# Altium schematic symbol library MyPro.SchLib: 23 symbols
Pins are listed as number, name and electrical type; pins without a type are passive.

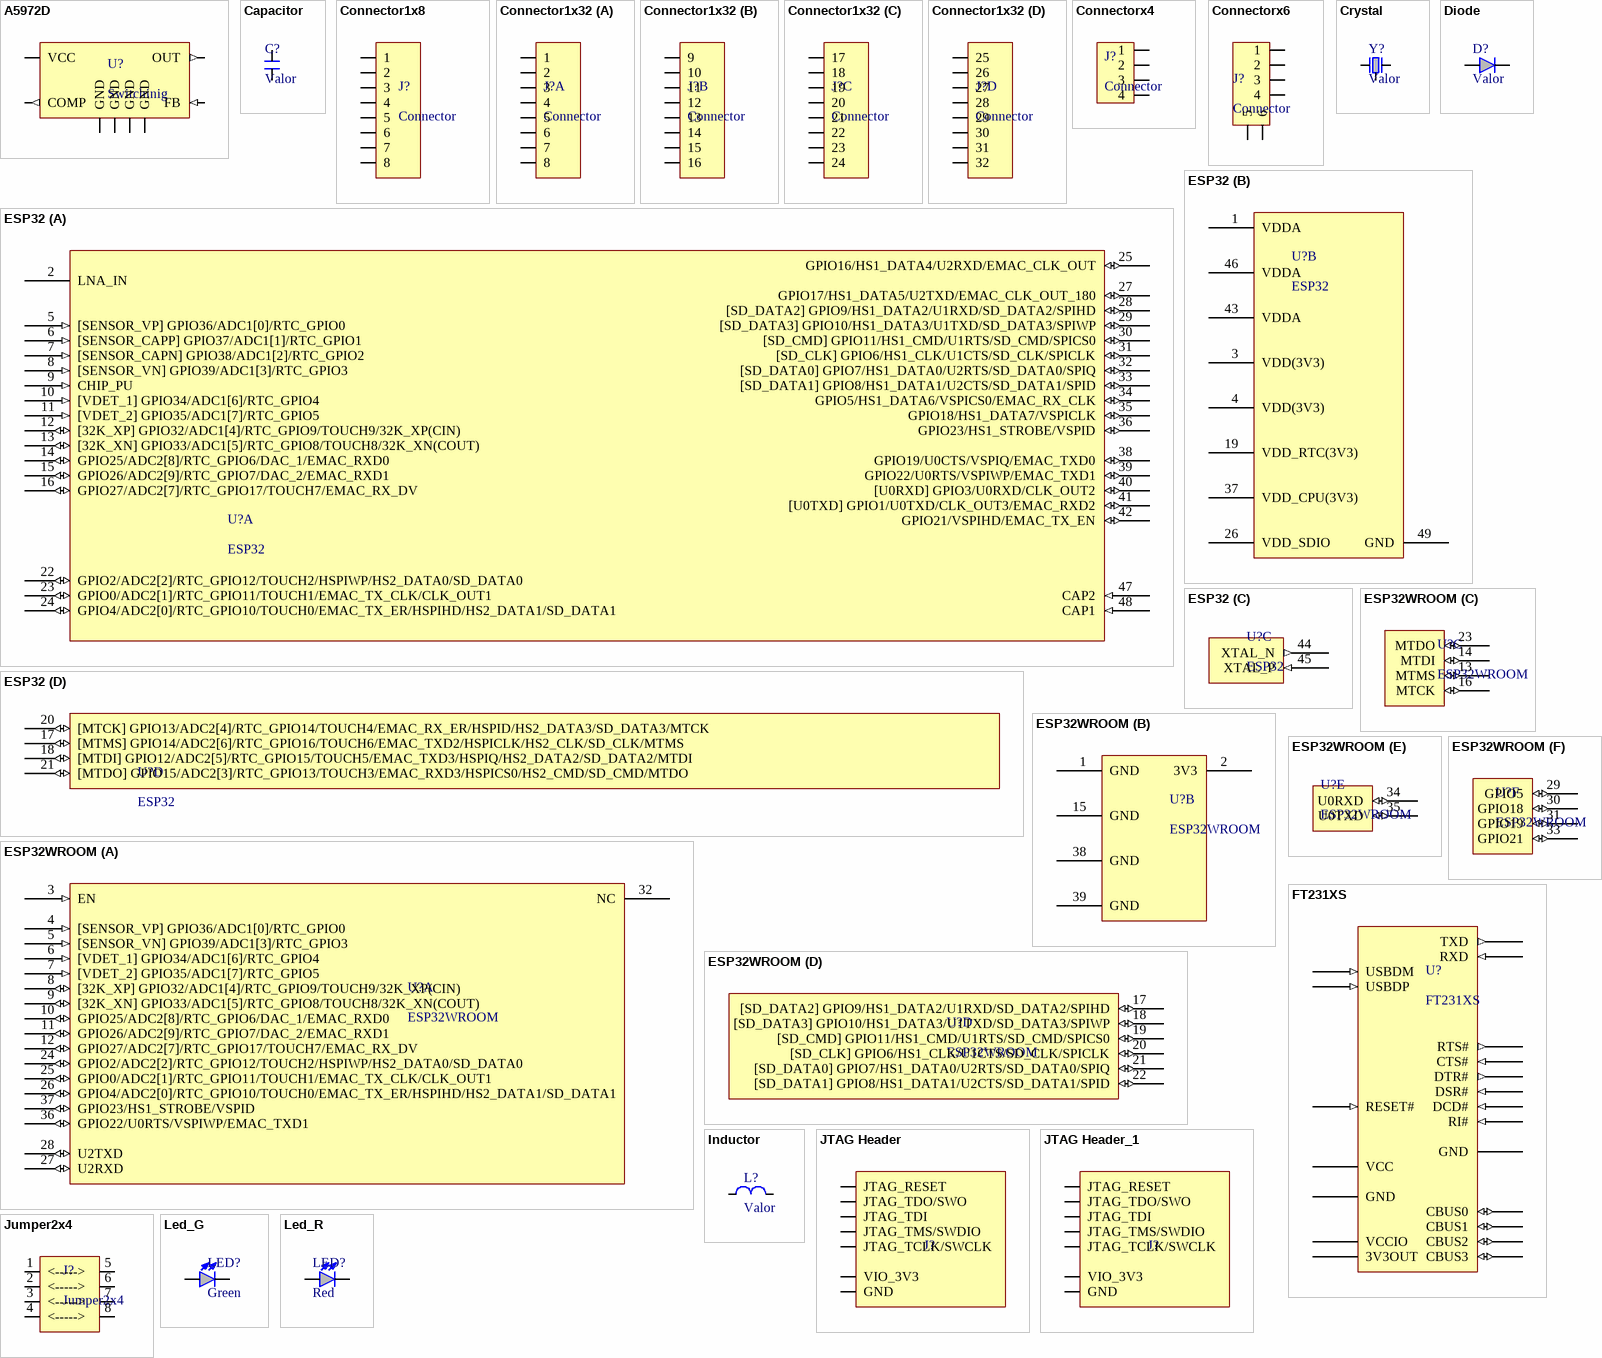
[diagram p0: symbols A5972D to Led_R]

## A5972D
designator U?, comment Switchinig
Fuente Switching 3.3v 1.5A
pins: 1 OUT (out), 2 GND, 3 GND, 4 COMP (out), 5 FB (in) "FeedBack input", 6 GND, 7 GND, 8 VCC

## Capacitor
designator C?, comment Valor
Capacitor
pins: 1 A1, 2 A2

## Connector1x8
designator J?, comment Connector
footprint HDRM_2.54mm_1X8
pins: 1, 2, 3, 4, 5, 6, 7, 8

## Connector1x32
designator J?, comment Connector
part A pins: 1, 2, 3, 4, 5, 6, 7, 8
part B pins: 9, 10, 11, 12, 13, 14, 15, 16
part C pins: 17, 18, 19, 20, 21, 22, 23, 24
part D pins: 25, 26, 27, 28, 29, 30, 31, 32

## Connectorx4
designator J?, comment Connector
footprint HDRM_0.1_1X4 (Header Male 100mils 4 pins)
pins: 1, 2, 3, 4

## Connectorx6
designator J?, comment Connector
pins: 1, 2, 3, 4, 5, 6

## Crystal
designator Y?, comment Valor
Crystal
pins: 1 P1, 2 P2, 3 P3

## Diode
designator D?, comment Valor
Generic Diode
pins: 1 A, 2 K

## ESP32
designator U?
part A pins: 2 LNA_IN, 5 [SENSOR_VP] GPIO36/ADC1[0]/RTC_GPIO0 (in), 6 [SENSOR_CAPP] GPIO37/ADC1[1]/RTC_GPIO1 (in), 7 [SENSOR_CAPN] GPIO38/ADC1[2]/RTC_GPIO2 (in), 8 [SENSOR_VN] GPIO39/ADC1[3]/RTC_GPIO3 (in), 9 CHIP_PU (in), 10 [VDET_1] GPIO34/ADC1[6]/RTC_GPIO4 (in), 11 [VDET_2] GPIO35/ADC1[7]/RTC_GPIO5 (in), 12 [32K_XP] GPIO32/ADC1[4]/RTC_GPIO9/TOUCH9/32K_XP(CIN) (io), 13 [32K_XN] GPIO33/ADC1[5]/RTC_GPIO8/TOUCH8/32K_XN(COUT) (io), 14 GPIO25/ADC2[8]/RTC_GPIO6/DAC_1/EMAC_RXD0 (io), 15 GPIO26/ADC2[9]/RTC_GPIO7/DAC_2/EMAC_RXD1 (io), 16 GPIO27/ADC2[7]/RTC_GPIO17/TOUCH7/EMAC_RX_DV (io), 22 GPIO2/ADC2[2]/RTC_GPIO12/TOUCH2/HSPIWP/HS2_DATA0/SD_DATA0 (io), 23 GPIO0/ADC2[1]/RTC_GPIO11/TOUCH1/EMAC_TX_CLK/CLK_OUT1 (io), 24 GPIO4/ADC2[0]/RTC_GPIO10/TOUCH0/EMAC_TX_ER/HSPIHD/HS2_DATA1/SD_DATA1 (io), 25 GPIO16/HS1_DATA4/U2RXD/EMAC_CLK_OUT (io), 27 GPIO17/HS1_DATA5/U2TXD/EMAC_CLK_OUT_180 (io), 28 [SD_DATA2] GPIO9/HS1_DATA2/U1RXD/SD_DATA2/SPIHD (io), 29 [SD_DATA3] GPIO10/HS1_DATA3/U1TXD/SD_DATA3/SPIWP (io), 30 [SD_CMD] GPIO11/HS1_CMD/U1RTS/SD_CMD/SPICS0 (io), 31 [SD_CLK] GPIO6/HS1_CLK/U1CTS/SD_CLK/SPICLK (io), 32 [SD_DATA0] GPIO7/HS1_DATA0/U2RTS/SD_DATA0/SPIQ (io), 33 [SD_DATA1] GPIO8/HS1_DATA1/U2CTS/SD_DATA1/SPID (io), 34 GPIO5/HS1_DATA6/VSPICS0/EMAC_RX_CLK (io), 35 GPIO18/HS1_DATA7/VSPICLK (io), 36 GPIO23/HS1_STROBE/VSPID (io), 38 GPIO19/U0CTS/VSPIQ/EMAC_TXD0 (io), 39 GPIO22/U0RTS/VSPIWP/EMAC_TXD1 (io), 40 [U0RXD] GPIO3/U0RXD/CLK_OUT2 (io), 41 [U0TXD] GPIO1/U0TXD/CLK_OUT3/EMAC_RXD2 (io), 42 GPIO21/VSPIHD/EMAC_TX_EN (io), 47 CAP2 (in), 48 CAP1 (in)
part B pins: 1 VDDA, 3 VDD(3V3), 4 VDD(3V3), 19 VDD_RTC(3V3), 26 VDD_SDIO, 37 VDD_CPU(3V3), 43 VDDA, 46 VDDA, 49 GND
part C pins: 44 XTAL_N (out), 45 XTAL_P (in)
part D pins: 17 [MTMS] GPIO14/ADC2[6]/RTC_GPIO16/TOUCH6/EMAC_TXD2/HSPICLK/HS2_CLK/SD_CLK/MTMS (io), 18 [MTDI] GPIO12/ADC2[5]/RTC_GPIO15/TOUCH5/EMAC_TXD3/HSPIQ/HS2_DATA2/SD_DATA2/MTDI (io), 20 [MTCK] GPIO13/ADC2[4]/RTC_GPIO14/TOUCH4/EMAC_RX_ER/HSPID/HS2_DATA3/SD_DATA3/MTCK (io), 21 [MTDO] GPIO15/ADC2[3]/RTC_GPIO13/TOUCH3/EMAC_RXD3/HSPICS0/HS2_CMD/SD_CMD/MTDO (io)

## ESP32WROOM
designator U?
footprint ESP32_WROOM - duplicate
part A pins: 3 EN (in), 4 [SENSOR_VP] GPIO36/ADC1[0]/RTC_GPIO0 (in), 5 [SENSOR_VN] GPIO39/ADC1[3]/RTC_GPIO3 (in), 6 [VDET_1] GPIO34/ADC1[6]/RTC_GPIO4 (in), 7 [VDET_2] GPIO35/ADC1[7]/RTC_GPIO5 (in), 8 [32K_XP] GPIO32/ADC1[4]/RTC_GPIO9/TOUCH9/32K_XP(CIN) (io), 9 [32K_XN] GPIO33/ADC1[5]/RTC_GPIO8/TOUCH8/32K_XN(COUT) (io), 10 GPIO25/ADC2[8]/RTC_GPIO6/DAC_1/EMAC_RXD0 (io), 11 GPIO26/ADC2[9]/RTC_GPIO7/DAC_2/EMAC_RXD1 (io), 12 GPIO27/ADC2[7]/RTC_GPIO17/TOUCH7/EMAC_RX_DV (io), 24 GPIO2/ADC2[2]/RTC_GPIO12/TOUCH2/HSPIWP/HS2_DATA0/SD_DATA0 (io), 25 GPIO0/ADC2[1]/RTC_GPIO11/TOUCH1/EMAC_TX_CLK/CLK_OUT1 (io), 26 GPIO4/ADC2[0]/RTC_GPIO10/TOUCH0/EMAC_TX_ER/HSPIHD/HS2_DATA1/SD_DATA1 (io), 27 U2RXD (io), 28 U2TXD (io), 32 NC, 36 GPIO22/U0RTS/VSPIWP/EMAC_TXD1 (io), 37 GPIO23/HS1_STROBE/VSPID (io)
part B pins: 1 GND, 2 3V3, 15 GND, 38 GND, 39 GND
part C pins: 13 MTMS (io), 14 MTDI (io), 16 MTCK (io), 23 MTDO (io)
part D pins: 17 [SD_DATA2] GPIO9/HS1_DATA2/U1RXD/SD_DATA2/SPIHD (io), 18 [SD_DATA3] GPIO10/HS1_DATA3/U1TXD/SD_DATA3/SPIWP (io), 19 [SD_CMD] GPIO11/HS1_CMD/U1RTS/SD_CMD/SPICS0 (io), 20 [SD_CLK] GPIO6/HS1_CLK/U1CTS/SD_CLK/SPICLK (io), 21 [SD_DATA0] GPIO7/HS1_DATA0/U2RTS/SD_DATA0/SPIQ (io), 22 [SD_DATA1] GPIO8/HS1_DATA1/U2CTS/SD_DATA1/SPID (io)
part E pins: 34 U0RXD (io), 35 U0TXD (io)
part F pins: 29 GPIO5 (io), 30 GPIO18 (io), 31 GPIO19 (io), 33 GPIO21 (io)

## FT231XS
designator U?
pins: 1 DTR# (out), 2 RTS# (out), 3 VCCIO (power), 4 RXD (in), 5 RI# (in), 6 GND (power), 7 DSR# (in), 8 DCD# (in), 9 CTS# (in), 10 CBUS2 (io), 11 USBDP (in), 12 USBDM (in), 13 3V3OUT (power), 14 RESET# (in), 15 VCC (power), 16 GND (power), 17 CBUS1 (io), 18 CBUS0 (io), 19 CBUS3 (io), 20 TXD (out)

## Inductor
designator L?, comment Valor
Inductor
pins: 1 P1, 2 P2

## JTAG Header
designator J?
pins: 1 VIO_3V3, 2 JTAG_TMS/SWDIO, 3 JTAG_TCLK/SWCLK, 4 JTAG_TDO/SWO, 5 JTAG_TDI, 6 JTAG_RESET, 8 GND

## JTAG Header_1
designator J?
footprint HDRM_2.54mm_1X8
pins: 1 VIO_3V3, 3 GND, 4 JTAG_RESET, 5 JTAG_TMS/SWDIO, 6 JTAG_TDI, 7 JTAG_TCLK/SWCLK, 8 JTAG_TDO/SWO

## Jumper2x4
designator J?
pins: 1 <----->, 2 <----->, 3 <----->, 4 <----->, 5, 6, 7, 8

## Led_G
designator LED?, comment Green
Green LED
pins: 1 A, 2 K

## Led_R
designator LED?, comment Red
Red LED
pins: 1 A, 2 K

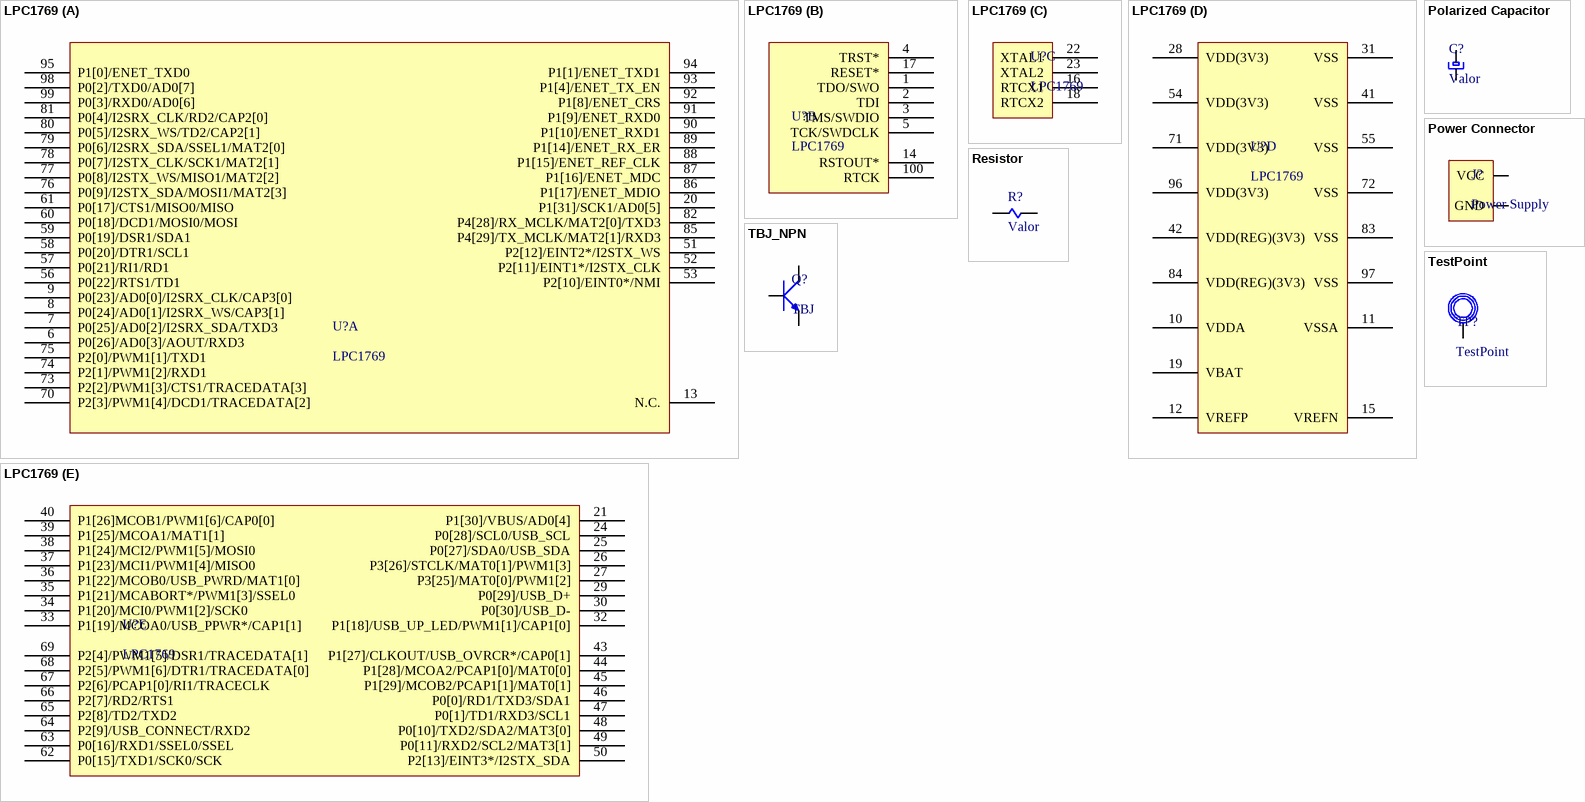
[diagram p1: symbols LPC1769 to TestPoint]

## LPC1769
designator U?
32 bit ARM Cortex M3
footprint LQFP100
part A pins: 6 P0[26]/AD0[3]/AOUT/RXD3, 7 P0[25]/AD0[2]/I2SRX_SDA/TXD3, 8 P0[24]/AD0[1]/I2SRX_WS/CAP3[1], 9 P0[23]/AD0[0]/I2SRX_CLK/CAP3[0], 13 N.C., 20 P1[31]/SCK1/AD0[5], 51 P2[12]/EINT2*/I2STX_WS, 52 P2[11]/EINT1*/I2STX_CLK, 53 P2[10]/EINT0*/NMI, 56 P0[22]/RTS1/TD1, 57 P0[21]/RI1/RD1, 58 P0[20]/DTR1/SCL1, 59 P0[19]/DSR1/SDA1, 60 P0[18]/DCD1/MOSI0/MOSI, 61 P0[17]/CTS1/MISO0/MISO, 70 P2[3]/PWM1[4]/DCD1/TRACEDATA[2], 73 P2[2]/PWM1[3]/CTS1/TRACEDATA[3], 74 P2[1]/PWM1[2]/RXD1, 75 P2[0]/PWM1[1]/TXD1, 76 P0[9]/I2STX_SDA/MOSI1/MAT2[3], 77 P0[8]/I2STX_WS/MISO1/MAT2[2], 78 P0[7]/I2STX_CLK/SCK1/MAT2[1], 79 P0[6]/I2SRX_SDA/SSEL1/MAT2[0], 80 P0[5]/I2SRX_WS/TD2/CAP2[1], 81 P0[4]/I2SRX_CLK/RD2/CAP2[0], 82 P4[28]/RX_MCLK/MAT2[0]/TXD3, 85 P4[29]/TX_MCLK/MAT2[1]/RXD3, 86 P1[17]/ENET_MDIO, 87 P1[16]/ENET_MDC, 88 P1[15]/ENET_REF_CLK, 89 P1[14]/ENET_RX_ER, 90 P1[10]/ENET_RXD1, 91 P1[9]/ENET_RXD0, 92 P1[8]/ENET_CRS, 93 P1[4]/ENET_TX_EN, 94 P1[1]/ENET_TXD1, 95 P1[0]/ENET_TXD0, 98 P0[2]/TXD0/AD0[7], 99 P0[3]/RXD0/AD0[6]
part B pins: 1 TDO/SWO, 2 TDI, 3 TMS/SWDIO, 4 TRST*, 5 TCK/SWDCLK, 14 RSTOUT*, 17 RESET*, 100 RTCK
part C pins: 16 RTCX1, 18 RTCX2, 22 XTAL1, 23 XTAL2
part D pins: 10 VDDA, 11 VSSA, 12 VREFP, 15 VREFN, 19 VBAT, 28 VDD(3V3), 31 VSS, 41 VSS, 42 VDD(REG)(3V3), 54 VDD(3V3), 55 VSS, 71 VDD(3V3), 72 VSS, 83 VSS, 84 VDD(REG)(3V3), 96 VDD(3V3), 97 VSS
part E pins: 21 P1[30]/VBUS/AD0[4], 24 P0[28]/SCL0/USB_SCL, 25 P0[27]/SDA0/USB_SDA, 26 P3[26]/STCLK/MAT0[1]/PWM1[3], 27 P3[25]/MAT0[0]/PWM1[2], 29 P0[29]/USB_D+, 30 P0[30]/USB_D-, 32 P1[18]/USB_UP_LED/PWM1[1]/CAP1[0], 33 P1[19]/MCOA0/USB_PPWR*/CAP1[1], 34 P1[20]/MCI0/PWM1[2]/SCK0, 35 P1[21]/MCABORT*/PWM1[3]/SSEL0, 36 P1[22]/MCOB0/USB_PWRD/MAT1[0], 37 P1[23]/MCI1/PWM1[4]/MISO0, 38 P1[24]/MCI2/PWM1[5]/MOSI0, 39 P1[25]/MCOA1/MAT1[1], 40 P1[26]MCOB1/PWM1[6]/CAP0[0], 43 P1[27]/CLKOUT/USB_OVRCR*/CAP0[1], 44 P1[28]/MCOA2/PCAP1[0]/MAT0[0], 45 P1[29]/MCOB2/PCAP1[1]/MAT0[1], 46 P0[0]/RD1/TXD3/SDA1, 47 P0[1]/TD1/RXD3/SCL1, 48 P0[10]/TXD2/SDA2/MAT3[0], 49 P0[11]/RXD2/SCL2/MAT3[1], 50 P2[13]/EINT3*/I2STX_SDA, 62 P0[15]/TXD1/SCK0/SCK, 63 P0[16]/RXD1/SSEL0/SSEL, 64 P2[9]/USB_CONNECT/RXD2, 65 P2[8]/TD2/TXD2, 66 P2[7]/RD2/RTS1, 67 P2[6]/PCAP1[0]/RI1/TRACECLK, 68 P2[5]/PWM1[6]/DTR1/TRACEDATA[0], 69 P2[4]/PWM1[5]/DSR1/TRACEDATA[1]

## Polarized Capacitor
designator C?, comment Valor
pins: 1 P, 2 N

## Power Connector
designator J?, comment Power Supply
pins: 1 VCC, 2 GND

## Resistor
designator R?, comment Valor
Resistor
pins: 1 P1, 2 P2

## TBJ_NPN
designator Q?, comment TBJ
pins: 1 B, 2 E, 3 C

## TestPoint
designator TP?
pins: 1 "TestPoint"